# EAGLE library part 5530843 (library 5530843-6)
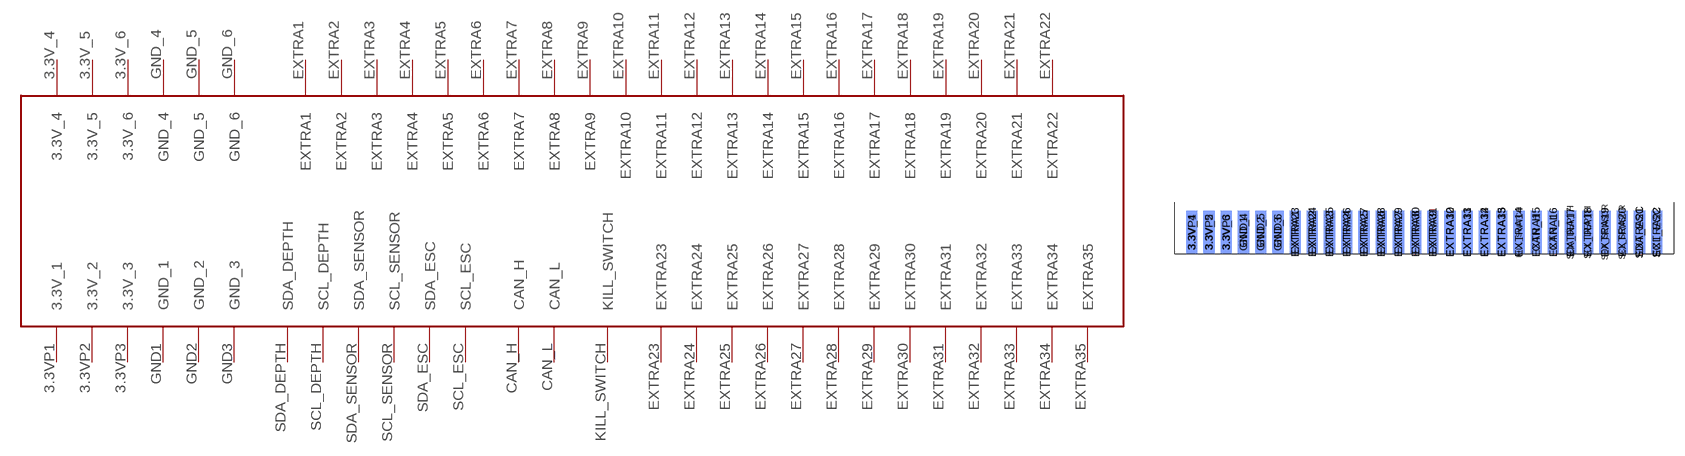
[diagram p0: symbol with the pads of 5530843-6-BOARDFINGERS; footprint 5530843-6-BOARDFINGERS]

Designator prefix -

## 5530843  [5530843-6-BOARDFINGERS]
3.3V_4  3.3V_4
3.3V_5  3.3V_5
3.3V_6  3.3V_6
3.3VP1  3.3V_1
3.3VP2  3.3V_2
3.3VP3  3.3V_3
CAN_H  CAN_H
CAN_L  CAN_L
EXTRA1  EXTRA1
EXTRA2  EXTRA2
EXTRA3  EXTRA3
EXTRA4  EXTRA4
EXTRA5  EXTRA5
EXTRA6  EXTRA6
EXTRA7  EXTRA7
EXTRA8  EXTRA8
EXTRA9  EXTRA9
EXTRA10  EXTRA10
EXTRA11  EXTRA11
EXTRA12  EXTRA12
EXTRA13  EXTRA13
EXTRA14  EXTRA14
EXTRA15  EXTRA15
EXTRA16  EXTRA16
EXTRA17  EXTRA17
EXTRA18  EXTRA18
EXTRA19  EXTRA19
EXTRA20  EXTRA20
EXTRA21  EXTRA21
EXTRA22  EXTRA22
EXTRA23  EXTRA23
EXTRA24  EXTRA24
EXTRA25  EXTRA25
EXTRA26  EXTRA26
EXTRA27  EXTRA27
EXTRA28  EXTRA28
EXTRA29  EXTRA29
EXTRA30  EXTRA30
EXTRA31  EXTRA31
EXTRA32  EXTRA32
EXTRA33  EXTRA33
EXTRA34  EXTRA34
EXTRA35  EXTRA35
GND1  GND_1
GND2  GND_2
GND3  GND_3
GND_4  GND_4
GND_5  GND_5
GND_6  GND_6
KILL_SWITCH  KILL_SWITCH
SCL_DEPTH  SCL_DEPTH
SCL_ESC  SCL_ESC
SCL_SENSOR  SCL_SENSOR
SDA_DEPTH  SDA_DEPTH
SDA_ESC  SDA_ESC
SDA_SENSOR  SDA_SENSOR

## Footprint 5530843-6-BOARDFINGERS (pad centres in mm)
smd 1.651 x 6.35 bottom: 3.3V_4 0.826,3.175; 3.3V_5 3.365,3.175; 3.3V_6 5.905,3.175; EXTRA1 16.066,3.175; EXTRA2 18.605,3.175; EXTRA3 21.145,3.175; EXTRA4 23.686,3.175; EXTRA5 26.226,3.175; EXTRA6 28.765,3.175; EXTRA7 31.305,3.175; EXTRA8 33.846,3.175; EXTRA9 36.386,3.175; EXTRA10 38.925,3.175; EXTRA11 41.465,3.175; EXTRA12 44.005,3.175; EXTRA13 46.545,3.175; EXTRA14 49.086,3.175; EXTRA15 51.626,3.175; EXTRA16 54.166,3.175; EXTRA17 56.706,3.175; EXTRA18 59.245,3.175; EXTRA19 61.785,3.175; EXTRA20 64.326,3.175; EXTRA21 66.865,3.175; EXTRA22 69.406,3.175; GND_4 8.445,3.175; GND_5 10.986,3.175; GND_6 13.525,3.175
smd 1.651 x 6.35: 3.3VP1 0.826,3.175; 3.3VP2 3.365,3.175; 3.3VP3 5.905,3.175; CAN_H 51.626,3.175; CAN_L 54.166,3.175; EXTRA23 16.066,3.175; EXTRA24 18.605,3.175; EXTRA25 21.145,3.175; EXTRA26 23.686,3.175; EXTRA27 26.226,3.175; EXTRA28 28.765,3.175; EXTRA29 31.305,3.175; EXTRA30 33.846,3.175; EXTRA31 36.386,3.175; EXTRA32 38.925,3.175; EXTRA33 41.465,3.175; EXTRA34 44.005,3.175; EXTRA35 46.545,3.175; GND1 8.445,3.175; GND2 10.986,3.175; GND3 13.525,3.175; KILL_SWITCH 49.086,3.175; SCL_DEPTH 59.245,3.175; SCL_ESC 69.406,3.175; SCL_SENSOR 64.326,3.175; SDA_DEPTH 56.706,3.175; SDA_ESC 66.865,3.175; SDA_SENSOR 61.785,3.175